# EAGLE library part DS89C450 (library ds89c450)
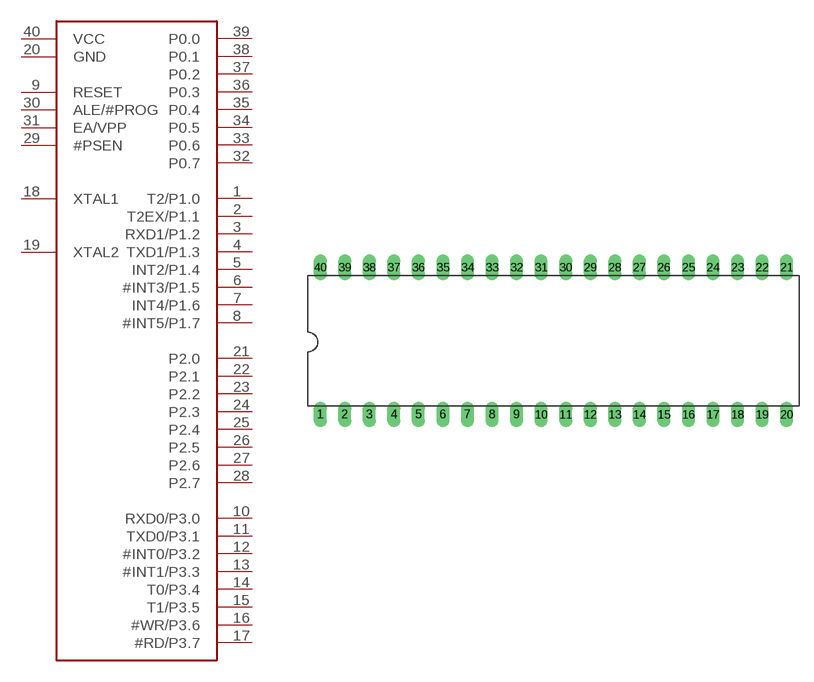
[diagram p0: symbol with the pads of DIL40; footprint DIL40]

Designator prefix -

## DS89C450  [DIL40]
1  T2/P1.0
2  T2EX/P1.1
3  RXD1/P1.2
4  TXD1/P1.3
5  INT2/P1.4
6  #INT3/P1.5
7  INT4/P1.6
8  #INT5/P1.7
9  RESET
10  RXD0/P3.0
11  TXD0/P3.1
12  #INT0/P3.2
13  #INT1/P3.3
14  T0/P3.4
15  T1/P3.5
16  #WR/P3.6
17  #RD/P3.7
18  XTAL1
19  XTAL2
20  GND
21  P2.0
22  P2.1
23  P2.2
24  P2.3
25  P2.4
26  P2.5
27  P2.6
28  P2.7
29  #PSEN
30  ALE/#PROG
31  EA/VPP
32  P0.7
33  P0.6
34  P0.5
35  P0.4
36  P0.3
37  P0.2
38  P0.1
39  P0.0
40  VCC

## Footprint DIL40 (pad centres in mm)
Dual In Line Package
drill 0.813 long: 1 -24.13,-7.62; 2 -21.59,-7.62; 3 -19.05,-7.62; 4 -16.51,-7.62; 5 -13.97,-7.62; 6 -11.43,-7.62; 7 -8.89,-7.62; 8 -6.35,-7.62; 9 -3.81,-7.62; 10 -1.27,-7.62; 11 1.27,-7.62; 12 3.81,-7.62; 13 6.35,-7.62; 14 8.89,-7.62; 15 11.43,-7.62; 16 13.97,-7.62; 17 16.51,-7.62; 18 19.05,-7.62; 19 21.59,-7.62; 20 24.13,-7.62; 21 24.13,7.62; 22 21.59,7.62; 23 19.05,7.62; 24 16.51,7.62; 25 13.97,7.62; 26 11.43,7.62; 27 8.89,7.62; 28 6.35,7.62; 29 3.81,7.62; 30 1.27,7.62; 31 -1.27,7.62; 32 -3.81,7.62; 33 -6.35,7.62; 34 -8.89,7.62; 35 -11.43,7.62; 36 -13.97,7.62; 37 -16.51,7.62; 38 -19.05,7.62; 39 -21.59,7.62; 40 -24.13,7.62